# Altium footprint library PcbLib1.PcbLib: 19 footprints (part 1 of 2)
Each footprint in its own frame and in the unit in brackets; x right, y up, seen from the top. Pads: shape width x height; smd on the part's side, far side on the other; paste and mask are expansions set on the pad; w line width, h text height; cw(c..) or ccw(c..) is an arc to the next point about the centre after c.
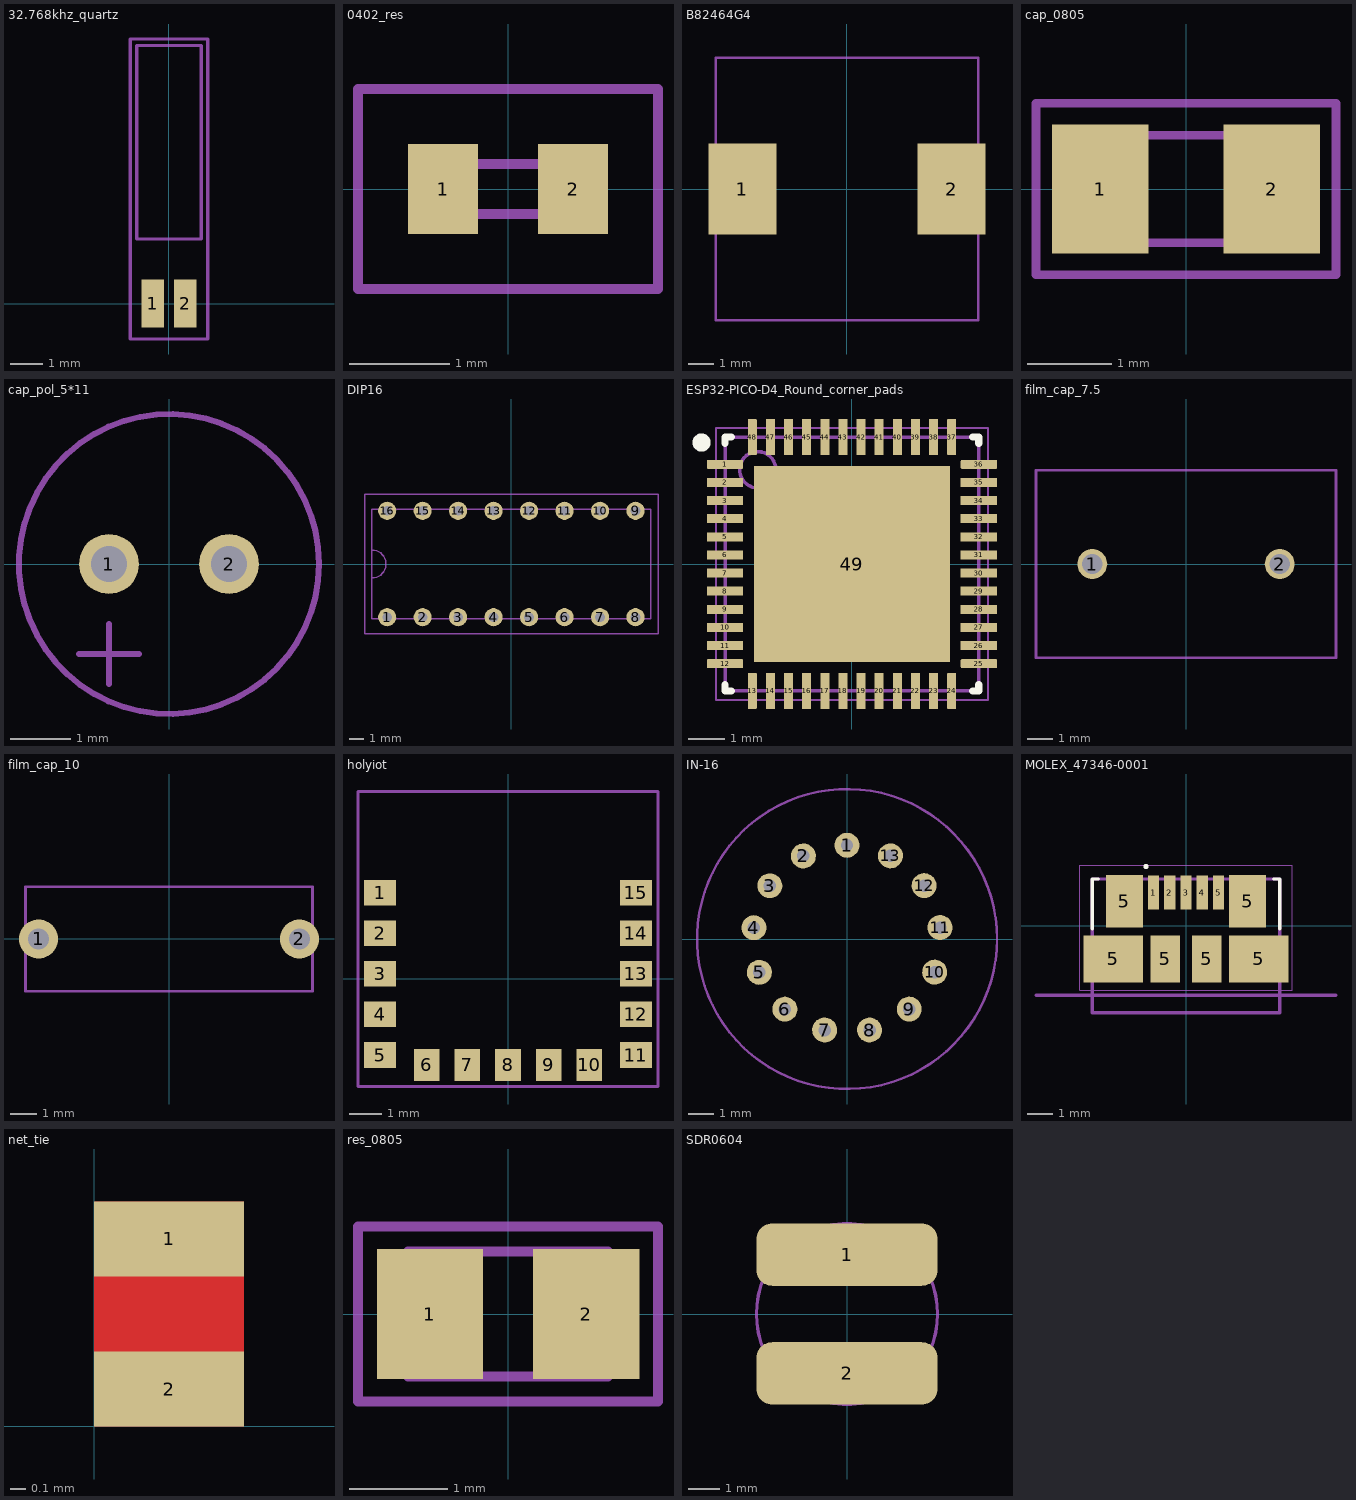
[diagram p0: the footprints below, top view; thin cyan lines are the x and y axes]

## 32.768khz_quartz [mm]
pads (2):
  rect 0.7x1.5 smd: 1(-0.5,0) 2(0.5,0)
Mechanical 1:
  lines w0.102: -1,2 1,2 1,8 -1,8 -1,2
Mechanical 15:
  lines w0.102: -1.2,-1.1 1.2,-1.1 1.2,8.2 -1.2,8.2 -1.2,-1.1
3D body: height 2, standoff 0, extent -0.992,2 1,8

## 0402_res [mm]
pads (2):
  rect 0.7x0.9 smd: 1(-0.65,0) 2(0.65,0)
Mechanical 1:
  lines w0.102: -0.5,-0.25 -0.5,0.25 0.5,0.25 0.5,-0.25 -0.5,-0.25
Mechanical 15:
  lines w0.102: -1.5,-1 -1.5,1 1.5,1 1.5,-1 -1.5,-1
3D body: height 0.4, standoff 0, extent -0.5,-0.25 0.5,0.25

## B82464G4 [mm]
pads (2):
  rect 2.7x3.6 smd: 1(-4.15,0) 2(4.15,0)
Mechanical 1:
  lines w0.102: -5.2,-5.2 -5.2,5.2 5.2,5.2 5.2,-5.2 -5.2,-5.2
3D body "User Library-B82464G4.step": height 4.82, standoff 0.01, extent -5.2,-5.2 5.2,5.2

## cap_0805 [mil]
pads (2):
  rect 45x60 smd: 1(-40,0) 2(40,0)
Mechanical 1:
  lines w4: -40,-25 40,-25 40,25 -40,25 -40,-25
Mechanical 15:
  lines w4: -70,-40 -70,40 70,40 70,-40 -70,-40
3D body: height 40, standoff 0, extent -40,-25 40,25

## cap_pol_5*11 [mm]
pads (2):
  round 1 hole 0.6: 1(-1,0) 2(1,0)
Mechanical 1:
  circle w0.1: c0,0 r2.5
  lines w0.102: -1.5,-1.5 -0.5,-1.5 ; -1,-2 -1,-1
3D body: height 11, standoff 0, extent -2.5,-2.497 2.5,2.497

## DIP16 [mm]
pads (16):
  round 1.3 hole 0.7: 1(-8.89,-3.81) 2(-6.35,-3.81) 3(-3.81,-3.81) 4(-1.27,-3.81) 5(1.27,-3.81) 6(3.81,-3.81) 7(6.35,-3.81) 8(8.89,-3.81) 9(8.89,3.81) 10(6.35,3.81) 11(3.81,3.81) 12(1.27,3.81) 13(-1.27,3.81) 14(-3.81,3.81) 15(-6.35,3.81) 16(-8.89,3.81)
Mechanical 1:
  lines w0.1: -9.98,-1 ccw(c-9.98,0) -9.98,1
  lines w0.102: -9.98,-3.935 -9.98,3.935 9.98,3.935 9.98,-3.935 -9.98,-3.935
Mechanical 15:
  lines w0.102: -10.5,-5 -10.5,5 10.5,5 10.5,-5 -10.5,-5
3D body "DIP16.STEP": height 4.7, standoff -2.6, extent -9.98,-3.935 9.98,3.935

## ESP32-PICO-D4_Round_corner_pads [mm]
pads (49):
  rrect25% 1x0.25 smd: 1(-3.5,2.75) 12(-3.5,-2.75) 25(3.5,-2.75) 36(3.5,2.75)
  rect 1x0.25 smd: 2(-3.5,2.25) 3(-3.5,1.75) 4(-3.5,1.25) 5(-3.5,0.75) 6(-3.5,0.25) 7(-3.5,-0.25) 8(-3.5,-0.75) 9(-3.5,-1.25) 10(-3.5,-1.75) 11(-3.5,-2.25) 26(3.5,-2.25) 27(3.5,-1.75) 28(3.5,-1.25) 29(3.5,-0.75) 30(3.5,-0.25) 31(3.5,0.25) 32(3.5,0.75) 33(3.5,1.25) 34(3.5,1.75) 35(3.5,2.25)
  rrect25% 0.25x1 smd: 13(-2.75,-3.5) 24(2.75,-3.5) 37(2.75,3.5) 48(-2.75,3.5)
  rect 0.25x1 smd: 14(-2.25,-3.5) 15(-1.75,-3.5) 16(-1.25,-3.5) 17(-0.75,-3.5) 18(-0.25,-3.5) 19(0.25,-3.5) 20(0.75,-3.5) 21(1.25,-3.5) 22(1.75,-3.5) 23(2.25,-3.5) 38(2.25,3.5) 39(1.75,3.5) 40(1.25,3.5) 41(0.75,3.5) 42(0.25,3.5) 43(-0.25,3.5) 44(-0.75,3.5) 45(-1.25,3.5) 46(-1.75,3.5) 47(-2.25,3.5)
  rect 5.4x5.4 smd paste-10: 49(0,0)
Top Overlay:
  circle w0.25: c-4.15,3.35 r0.125
  lines w0.2: -3.5,-3.325 -3.5,-3.5 -3.325,-3.5 ; -3.5,3.325 -3.5,3.5 -3.325,3.5 ; 3.325,-3.5 3.5,-3.5 3.5,-3.325 ; 3.325,3.5 3.5,3.5 3.5,3.325
Top Paste:
  region: -2.4,-1 -2.4,-2.4 -1,-2.4 -1,-1
  region: -0.7,-1 -0.7,-2.4 0.7,-2.4 0.7,-1
  region: 1,-1 1,-2.4 2.4,-2.4 2.4,-1
  region: 1,0.7 1,-0.7 2.4,-0.7 2.4,0.7
  region: -2.4,0.7 -2.4,-0.7 -1,-0.7 -1,0.7
  region: -0.7,0.7 -0.7,-0.7 0.7,-0.7 0.7,0.7
  region: -0.7,2.4 -0.7,1 0.7,1 0.7,2.4
  region: 1,2.4 1,1 2.4,1 2.4,2.4
  region: -2.4,2.4 -2.4,1 -1,1 -1,2.4
Mechanical 13:
  circle w0.1: c-2.6,2.6 r0.5
  lines w0.1: -3.5,-3.5 -3.5,3.5 3.5,3.5 3.5,-3.5 -3.5,-3.5
Mechanical 15:
  lines w0.05: -3.75,-3.75 -3.75,3.75 3.75,3.75 3.75,-3.75 -3.75,-3.75
  lines w0.1: -0.5,0 0.5,0 ; 0,-0.5 0,0.5
3D body "ESP32 PICO D4.step": height 1, standoff 0, extent -3.5,-3.5 3.5,3.5

## film_cap_7.5 [mm]
pads (2):
  round 1.2 hole 0.8 unplated: 1(-3.75,0) 2(3.75,0)
Mechanical 1:
  lines w0.102: -6,-3.75 6,-3.75 6,3.75 -6,3.75 -6,-3.75
3D body: height 14, standoff 0, extent -6,-3.75 6,3.75

## film_cap_10 [mm]
pads (2):
  round 1.5 hole 0.8: 1(-5,0) 2(5,0)
Mechanical 1:
  lines w0.102: -5.5,-2 5.5,-2 5.5,2 -5.5,2 -5.5,-2

## holyiot [mm]
pads (15):
  rect 1x0.8 smd: 1(-4.01,2.694) 2(-4.01,1.424) 3(-4.01,0.154) 4(-4.01,-1.116) 5(-4.01,-2.386) 11(4.01,-2.386) 12(4.01,-1.116) 13(4.01,0.154) 14(4.01,1.424) 15(4.01,2.694)
  rect 0.8x1 smd: 6(-2.54,-2.694) 7(-1.27,-2.694) 8(0,-2.694) 9(1.27,-2.694) 10(2.54,-2.694)
Mechanical 1:
  lines w0.102: -4.7,-3.376 -4.7,5.874 4.7,5.874 4.7,-3.376 -4.7,-3.376

## IN-16 [mm]
pads (13):
  round 1 hole 0.5: 1(0,3.75) 2(-1.743,3.32) 3(-3.087,2.129) 4(-3.723,0.451) 5(-3.506,-1.332) 6(-2.485,-2.809) 7(-0.894,-3.642) 8(0.901,-3.64) 9(2.49,-2.804) 10(3.508,-1.326) 11(3.722,0.457) 12(3.083,2.135) 13(1.737,3.323)
Mechanical 1:
  circle w0.1: c0,0 r6
3D body: height 40, standoff 0, extent -3.75,-3.75 3.75,3.75

## micro_usb [mm]

## MOLEX_47346-0001 [mm]
pads (11):
  rect 0.45x1.38 smd: 1(-1.3,1.33) 2(-0.65,1.33) 3(0,1.33) 4(0.65,1.33) 5(1.3,1.33)
  rect 2.375x1.9 smd: 5(-2.913,-1.33) 5(2.913,-1.33)
  rect 1.475x2.1 smd: 5(-2.462,0.97) 5(2.462,0.97)
  rect 1.175x1.9 smd: 5(-0.837,-1.33) 5(0.837,-1.33)
Top Overlay:
  circle w0.1: c-1.6,2.37 r0.05
  lines w0.127: -3.75,-0.13 -3.75,1.87 -3.5,1.87 ; 3.5,1.87 3.75,1.87 3.75,-0.13
Mechanical 4:
  lines w0.127: -3.75,-3.48 3.75,-3.48 ; -3.75,-3.48 -3.75,1.87 ; -3.75,-3.48 3.75,-3.48 ; -3.75,-3.48 -3.75,1.87 ; -3.75,1.87 3.75,1.87 ; -3.75,1.87 3.75,1.87 ; 3.75,-3.48 3.75,1.87 ; 3.75,-3.48 3.75,1.87 ; -6,-2.78 6,-2.78 -6,-2.78
Mechanical 16:
  lines w0.05: -4.25,-2.58 -4.25,2.42 4.25,2.42 4.25,-2.58 -4.25,-2.58
3D body "473460001.stp": height 2.71, standoff -0.23, extent -3.99,-3.856 3.99,1.574

## net_tie [mm]
pads (2):
  rect 1x0.5 smd: 1(0.5,1.25) 2(0.5,0.25)
Top Layer:
  rectangle: 0,0 1,1.5

## res_0805 [mil]
pads (2):
  rect 42.5x52 smd: 1(-31.25,0) 2(31.25,0)
Mechanical 1:
  lines w4: -40,-25 40,-25 40,25 -40,25 -40,-25
Mechanical 15:
  lines w4: -60,-35 -60,35 60,35 60,-35 -60,-35
3D body: height 20, standoff 0, extent -40,-25 40,25

## SDR0604 [mm]
pads (2):
  rrect50% 5.8x2 smd: 1(0,1.9) 2(0,-1.9)
Mechanical 1:
  circle w0.1: c0,0 r2.9